# EAGLE library part 632723100011 (library 632723100011)
WURTH ELEKTRONIK - 632723100011 - USB Connector, USB Type C, USB 3.1, Receptacle, 24 Ways, Surface Mount, Through Hole Mount Source: Datasheet <https://componentsearchengine.com/Datasheets/1/632723100011.pdf>
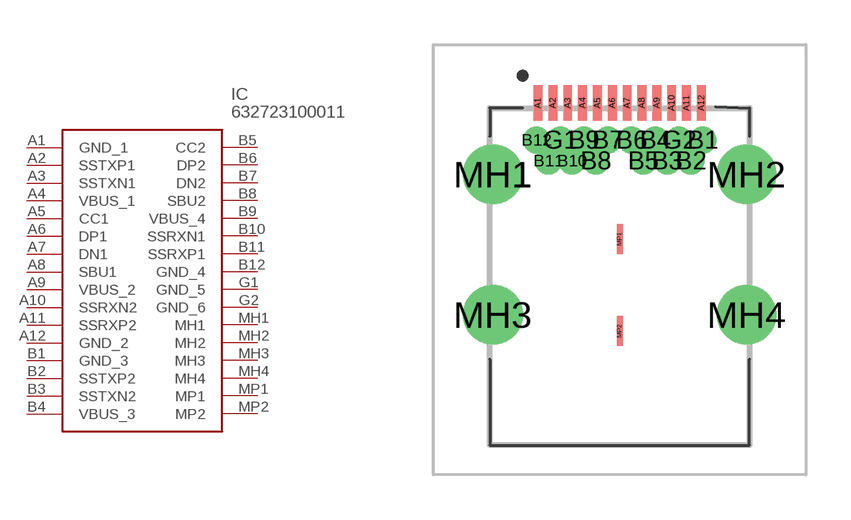
[diagram p0: symbol with the pads of 632723100011; footprint 632723100011]

Designator prefix IC

## 632723100011 (Description: WURTH ELEKTRONIK - 632723100011 - USB Connector, USB Type C, USB 3.1, Receptacle, 24 Ways, Surface Mount, Through Hole Mount; Height: 3.11mm; Manufacturer_Name: Wurth Elektronik; Manufacturer_Part_Number: 632723100011; Mouser_Part_Number: 710-632723100011; Mouser_Price-Stock: https://www.mouser.co.uk/ProductDetail/Wurth-Elektronik/632723100011?qs=NK6InXoXhq4o62C9ULXLjQ%3D%3D)  [632723100011]
A1  GND_1
A2  SSTXP1
A3  SSTXN1
A4  VBUS_1
A5  CC1
A6  DP1
A7  DN1
A8  SBU1
A9  VBUS_2
A10  SSRXN2
A11  SSRXP2
A12  GND_2
B1  GND_3
B2  SSTXP2
B3  SSTXN2
B4  VBUS_3
B5  CC2
B6  DP2
B7  DN2
B8  SBU2
B9  VBUS_4
B10  SSRXN1
B11  SSRXP1
B12  GND_4
G1  GND_5
G2  GND_6
MH1  MH1
MH2  MH2
MH3  MH3
MH4  MH4
MP1  MP1
MP2  MP2

## Footprint 632723100011 (pad centres in mm)
632723100011-1
smd 0.3 x 1.2: A1 -2.75,5.28; A2 -2.25,5.28; A3 -1.75,5.28; A4 -1.25,5.28; A5 -0.75,5.28; A6 -0.25,5.28; A7 0.25,5.28; A8 0.75,5.28; A9 1.25,5.28; A10 1.75,5.28; A11 2.25,5.28; A12 2.75,5.28
drill 0.4 pad 0.7: B1 2.8,4.03; B2 2.4,3.33; B3 1.6,3.33; B4 1.2,4.03; B5 0.8,3.33; B6 0.4,4.03; B7 -0.4,4.03; B8 -0.8,3.33; B9 -1.2,4.03; B10 -1.6,3.33; B11 -2.4,3.33; B12 -2.8,4.03; G1 -2,4.03; G2 2,4.03
drill 1.34 pad 2.01: MH1 -4.27,2.88; MH2 4.27,2.88; MH3 -4.27,-1.85; MH4 4.27,-1.85
smd 0.2 x 1: MP1 0,0.7; MP2 0,-2.4